# EAGLE library part ATMEGA16_HEADDER (library Atmel_Prototype_Header)
8-bit AVR Microcontroller with 16K Bytes In-System Programmable Flash
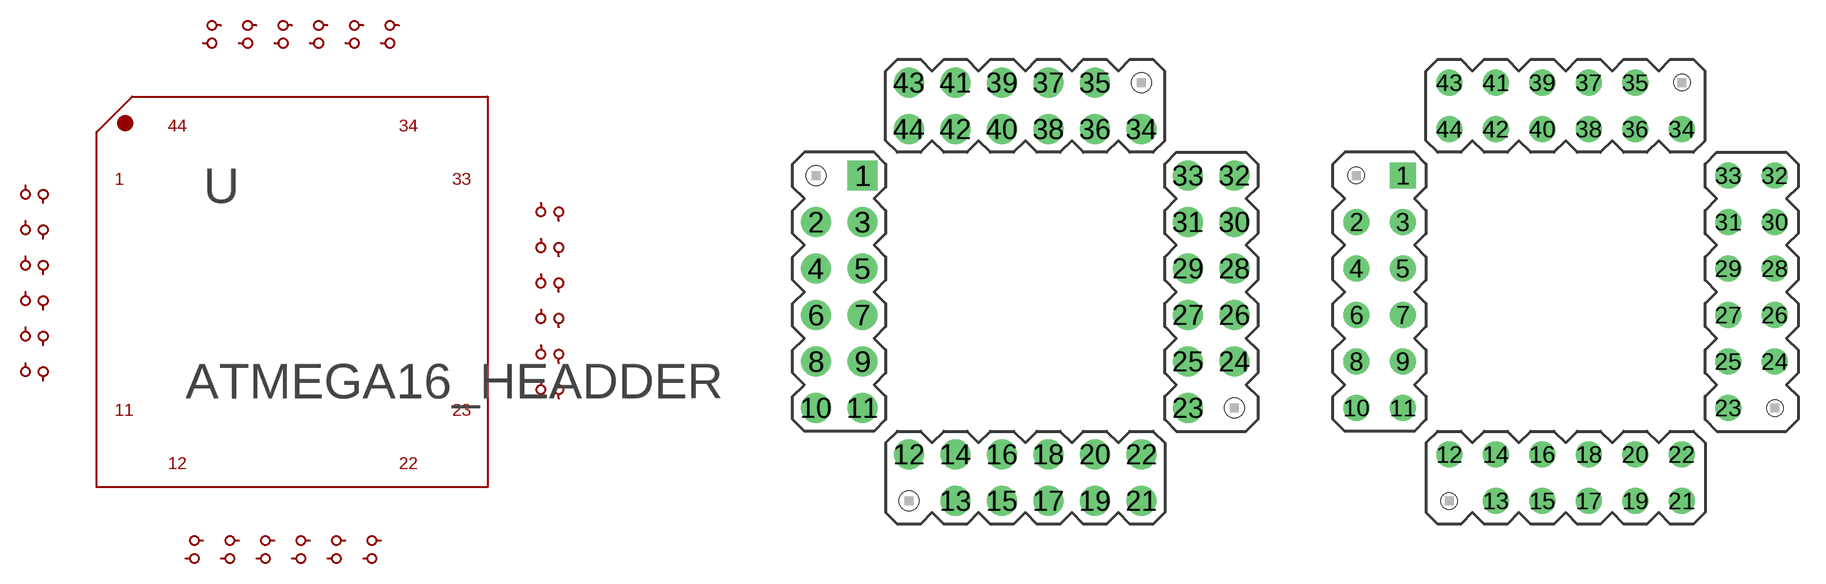
[diagram p17: symbol with the pads of HEADER_DUALSQR44_43; footprints HEADER_DUALSQR44_43, HEADER_DUALSQR44_35]

Designator prefix U

## ATMEGA16_HEADDER_DUAL44_43  [HEADER_DUALSQR44_43]
1  PB5_MOSI
2  PB6_MISO
3  PB7_SCK
4  /RESET
5  VCC
6  GND
7  XTAL2
8  XTAL1
9  PD0_RXD
10  PD1_TXD
11  PD2_INT0
12  PD3_INT1
13  PD4_OC1B
14  PD5_OC1A
15  PD6_ICP
16  PD7_OC2
17  VCC
18  GND
19  PC0_SCL
20  PC1_SDA
21  PC2_TCK
22  PC3_TMS
23  PC4_TDO
24  PC5_TDI
25  PC6_TOSC1
26  PC7_TOSC2
27  AVCC
28  GND
29  AREF
30  PA7_ADC7
31  PA6_ADC6
32  PA5_ADC5
33  PA4_ADC4
34  PA3_ADC3
35  PA2_ADC2
36  PA1_ADC1
37  PA0_ADC0
38  VCC
39  GND
40  PB0_XCK_T0
41  PB1_T1
42  PB2_AIN0_INT2
43  PB3_AIN1_OC0
44  PB4_/SS

## ATMEGA16_HEADDER_DUAL44_35  [HEADER_DUALSQR44_35]
Pads as for HEADER_DUALSQR44_43

## Footprint HEADER_DUALSQR44_43 (pad centres in mm)
drill 1.1 square: 1 -8.89,6.35
drill 1.1 round: 2 -11.43,3.81; 3 -8.89,3.81; 4 -11.43,1.27; 5 -8.89,1.27; 6 -11.43,-1.27; 7 -8.89,-1.27; 8 -11.43,-3.81; 9 -8.89,-3.81; 10 -11.43,-6.35; 11 -8.89,-6.35; 12 -6.35,-8.89; 13 -3.81,-11.43; 14 -3.81,-8.89; 15 -1.27,-11.43; 16 -1.27,-8.89; 17 1.27,-11.43; 18 1.27,-8.89; 19 3.81,-11.43; 20 3.81,-8.89; 21 6.35,-11.43; 22 6.35,-8.89; 23 8.89,-6.35; 24 11.43,-3.81; 25 8.89,-3.81; 26 11.43,-1.27; 27 8.89,-1.27; 28 11.43,1.27; 29 8.89,1.27; 30 11.43,3.81; 31 8.89,3.81; 32 11.43,6.35; 33 8.89,6.35; 34 6.35,8.89; 35 3.81,11.43; 36 3.81,8.89; 37 1.27,11.43; 38 1.27,8.89; 39 -1.27,11.43; 40 -1.27,8.89; 41 -3.81,11.43; 42 -3.81,8.89; 43 -6.35,11.43; 44 -6.35,8.89
hole 1.1 at -11.43,6.35
hole 1.1 at -6.35,-11.43
hole 1.1 at 11.43,-6.35
hole 1.1 at 6.35,11.43

## Footprint HEADER_DUALSQR44_35 (pad centres in mm)
drill 0.9 square: 1 -8.89,6.35
drill 0.9 round: 2 -11.43,3.81; 3 -8.89,3.81; 4 -11.43,1.27; 5 -8.89,1.27; 6 -11.43,-1.27; 7 -8.89,-1.27; 8 -11.43,-3.81; 9 -8.89,-3.81; 10 -11.43,-6.35; 11 -8.89,-6.35; 12 -6.35,-8.89; 13 -3.81,-11.43; 14 -3.81,-8.89; 15 -1.27,-11.43; 16 -1.27,-8.89; 17 1.27,-11.43; 18 1.27,-8.89; 19 3.81,-11.43; 20 3.81,-8.89; 21 6.35,-11.43; 22 6.35,-8.89; 23 8.89,-6.35; 24 11.43,-3.81; 25 8.89,-3.81; 26 11.43,-1.27; 27 8.89,-1.27; 28 11.43,1.27; 29 8.89,1.27; 30 11.43,3.81; 31 8.89,3.81; 32 11.43,6.35; 33 8.89,6.35; 34 6.35,8.89; 35 3.81,11.43; 36 3.81,8.89; 37 1.27,11.43; 38 1.27,8.89; 39 -1.27,11.43; 40 -1.27,8.89; 41 -3.81,11.43; 42 -3.81,8.89; 43 -6.35,11.43; 44 -6.35,8.89
hole 0.9 at -11.43,6.35
hole 0.9 at -6.35,-11.43
hole 0.9 at 11.43,-6.35
hole 0.9 at 6.35,11.43